# Altium footprint library LED.PcbLib: 4 footprints
Each footprint in its own frame and in the unit in brackets; x right, y up, seen from the top. Pads: shape width x height; smd on the part's side, far side on the other; paste and mask are expansions set on the pad; w line width, h text height; cw(c..) or ccw(c..) is an arc to the next point about the centre after c.
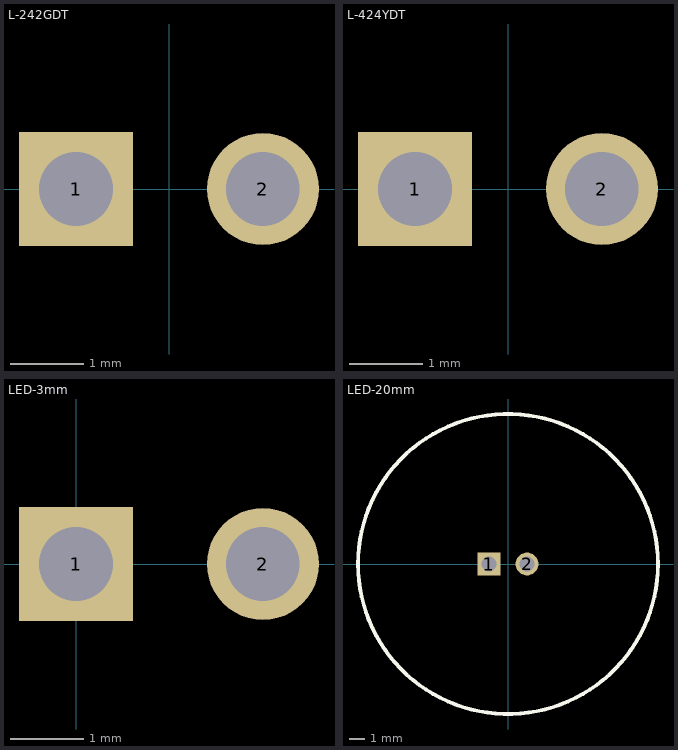
[diagram p0: the footprints below, top view; thin cyan lines are the x and y axes]

## L-242GDT [mm] "L-242GDT"
pads (2):
  rect 1.55x1.55 hole 1: 1(-1.27,0)
  round 1.524 hole 1: 2(1.27,0)
3D body "L-424GDT.stp": height 14.3, standoff -6.7, extent -1.7,-1.7 1.7,1.7

## L-424YDT [mm] "L-424YDT"
pads (2):
  rect 1.55x1.55 hole 1: 1(-1.27,0)
  round 1.524 hole 1: 2(1.27,0)
3D body "L-424YDT.stp": height 14.3, standoff -6.7, extent -1.7,-1.7 1.7,1.7

## LED-3mm [mm]
pads (2):
  rect 1.55x1.55 hole 1: 1(0,0)
  round 1.524 hole 1: 2(2.54,0)
3D body "CircuitWorks-LED DIP 3MM.step": height 8, standoff -0.5, extent -0.353,-1.895 3.147,1.905

## LED-20mm [mm]
pads (2):
  rect 1.55x1.55 hole 1: 1(-1.27,0)
  round 1.524 hole 1: 2(1.27,0)
Top Overlay:
  circle w0.254: c0,0 r10
3D body "LED 20mm.stp": height 0, standoff 0, extent -1278.001,-1274.953 -1278.001,-1274.953
3D body "LED 20mm.stp": height 0, standoff 0, extent -72.39,-53.975 -72.39,-53.975
3D body "LED 20mm.stp": height 23.5, standoff -13.5, extent -11.5,-11.478 11.5,11.478